# EAGLE library part LM75B (library microbuilder)
LM75B I2C Temperature Sensor The I2C-based LM75B can measure temperature between -55 and 125°C in 0.125°C increments (11-bit resolution). Digikey: 568-4768-1-ND
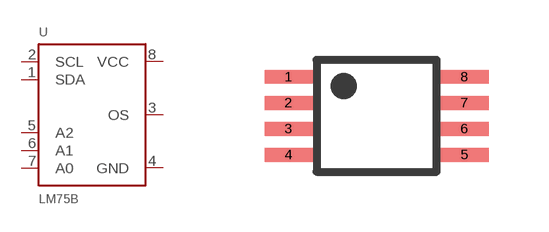
[diagram p25: symbol with the pads of TSSOP8; footprint TSSOP8]

Designator prefix U

## LM75B  [TSSOP8]
1  SDA
2  SCL
3  OS
4  GND  pwr
5  A2
6  A1
7  A0
8  VCC  pwr

## Footprint TSSOP8 (pad centres in mm)
Plastic Small Outline 0.65mm Pitch, 3.0mm x 3.0mm
smd 1.2 x 0.35: 1 -2.2,0.975; 2 -2.2,0.325; 3 -2.2,-0.325; 4 -2.2,-0.975; 5 2.2,-0.975; 6 2.2,-0.325; 7 2.2,0.325; 8 2.2,0.975